# EAGLE library part TLV4110 (library X893)
http://focus.ti.com/lit/ds/symlink/tlv4110.pdf
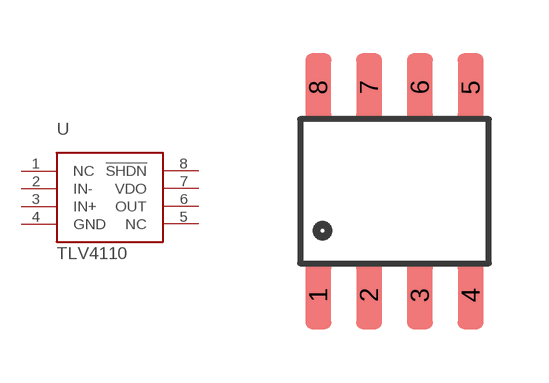
[diagram p84: symbol with the pads of SO08; footprint SO08]

Designator prefix U

## TLV4110  [SO08]
1  NC
2  IN-
3  IN+
4  GND
5  NC
6  OUT
7  VDO
8  !SHDN

## Footprint SO08 (pad centres in mm)
Small Outline Package Fits JEDEC packages (narrow SOIC-8)
smd 0.65 x 1.7: 1 -1.905,-2.6; 2 -0.635,-2.6; 3 0.635,-2.6; 4 1.905,-2.6; 5 1.905,2.6; 6 0.635,2.6; 7 -0.635,2.6; 8 -1.905,2.6